# EAGLE library part PI5C34X245-B (library busswitch)
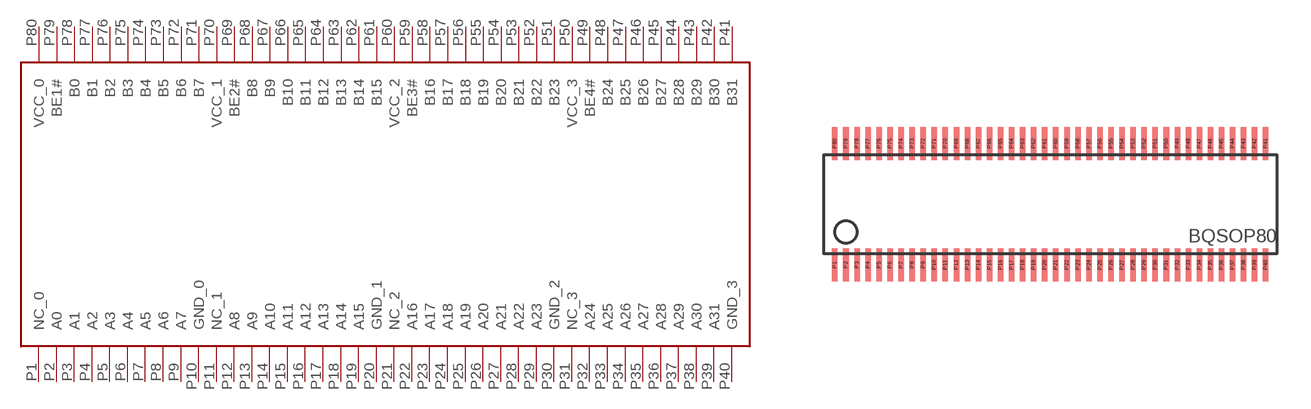
[diagram p0: symbol with the pads of BQSOP80; footprint BQSOP80]

Designator prefix -

## PI5C34X245-B  [BQSOP80]
P1  NC_0  nc
P2  A0
P3  A1
P4  A2
P5  A3
P6  A4
P7  A5
P8  A6
P9  A7
P10  GND_0  pwr
P11  NC_1  nc
P12  A8
P13  A9
P14  A10
P15  A11
P16  A12
P17  A13
P18  A14
P19  A15
P20  GND_1  pwr
P21  NC_2  nc
P22  A16
P23  A17
P24  A18
P25  A19
P26  A20
P27  A21
P28  A22
P29  A23
P30  GND_2  pwr
P31  NC_3  nc
P32  A24
P33  A25
P34  A26
P35  A27
P36  A28
P37  A29
P38  A30
P39  A31
P40  GND_3  pwr
P41  B31
P42  B30
P43  B29
P44  B28
P45  B27
P46  B26
P47  B25
P48  B24
P49  BE4#  in
P50  VCC_3  pwr
P51  B23
P52  B22
P53  B21
P54  B20
P55  B19
P56  B18
P57  B17
P58  B16
P59  BE3#  in
P60  VCC_2  pwr
P61  B15
P62  B14
P63  B13
P64  B12
P65  B11
P66  B10
P67  B9
P68  B8
P69  BE2#  in
P70  VCC_1  pwr
P71  B7
P72  B6
P73  B5
P74  B4
P75  B3
P76  B2
P77  B1
P78  B0
P79  BE1#  in
P80  VCC_0  pwr

## Footprint BQSOP80 (pad centres in mm)
smd 0.25 x 1.5: P1 -10,-3; P2 -9.5,-3; P3 -9,-3; P4 -8.5,-3; P5 -8,-3; P6 -7.5,-3; P7 -7,-3; P8 -6.5,-3; P9 -6,-3; P10 -5.5,-3; P11 -5,-3; P12 -4.5,-3; P13 -4,-3; P14 -3.5,-3; P15 -3,-3; P16 -2.5,-3; P17 -2,-3; P18 -1.5,-3; P19 -1,-3; P20 -0.5,-3; P21 0,-3; P22 0.5,-3; P23 1,-3; P24 1.5,-3; P25 2,-3; P26 2.5,-3; P27 3,-3; P28 3.5,-3; P29 4,-3; P30 4.5,-3; P31 5,-3; P32 5.5,-3; P33 6,-3; P34 6.5,-3; P35 7,-3; P36 7.5,-3; P37 8,-3; P38 8.5,-3; P39 9,-3; P40 9.5,-3; P41 9.5,2.5; P42 9,2.5; P43 8.5,2.5; P44 8,2.5; P45 7.5,2.5; P46 7,2.5; P47 6.5,2.5; P48 6,2.5; P49 5.5,2.5; P50 5,2.5; P51 4.5,2.5; P52 4,2.5; P53 3.5,2.5; P54 3,2.5; P55 2.5,2.5; P56 2,2.5; P57 1.5,2.5; P58 1,2.5; P59 0.5,2.5; P60 0,2.5; P61 -0.5,2.5; P62 -1,2.5; P63 -1.5,2.5; P64 -2,2.5; P65 -2.5,2.5; P66 -3,2.5; P67 -3.5,2.5; P68 -4,2.5; P69 -4.5,2.5; P70 -5,2.5; P71 -5.5,2.5; P72 -6,2.5; P73 -6.5,2.5; P74 -7,2.5; P75 -7.5,2.5; P76 -8,2.5; P77 -8.5,2.5; P78 -9,2.5; P79 -9.5,2.5; P80 -10,2.5